# Altium footprint library CONN_HDR_2.54MM_RA_SMD.PcbLib: 56 footprints (part 1 of 4)
Each footprint in its own frame and in the unit in brackets; x right, y up, seen from the top. Pads: shape width x height; smd on the part's side, far side on the other; paste and mask are expansions set on the pad; w line width, h text height; cw(c..) or ccw(c..) is an arc to the next point about the centre after c.
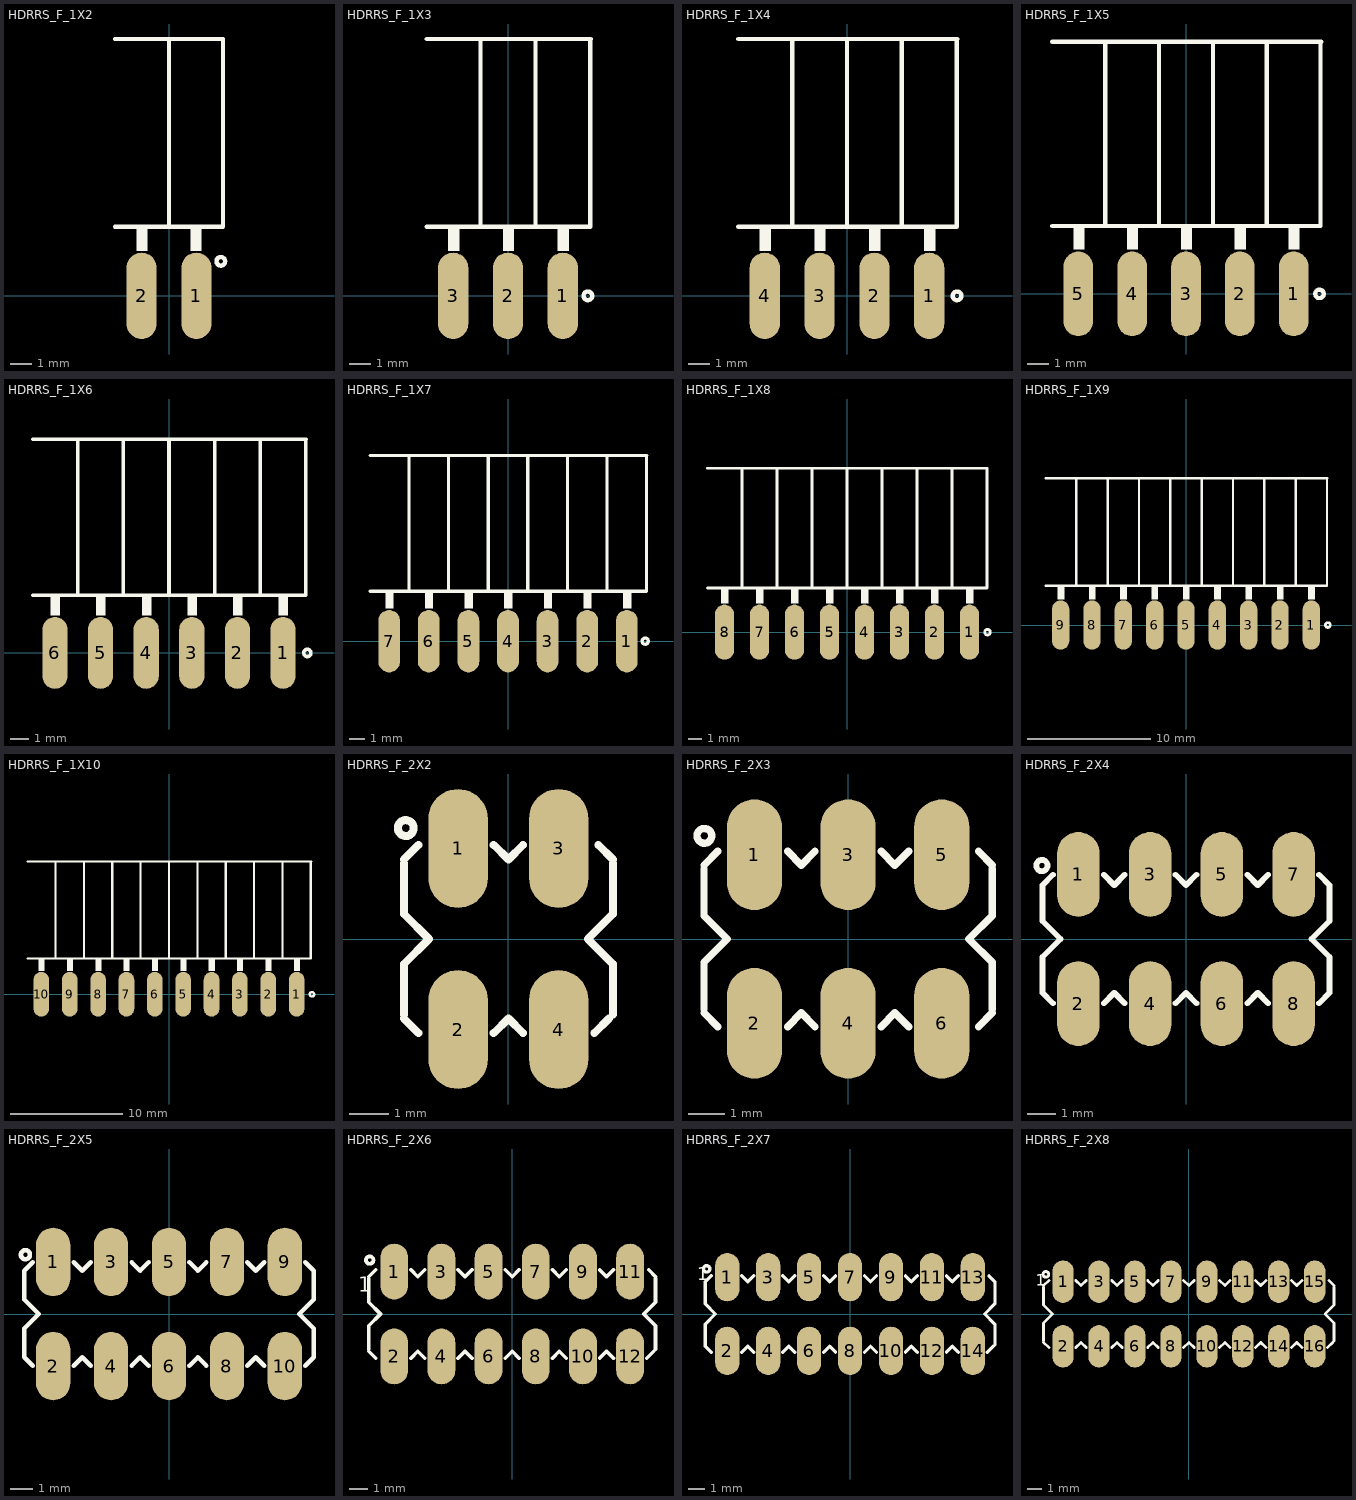
[diagram p0: the footprints below, top view; thin cyan lines are the x and y axes]

## HDRRS_F_1X2 [mm] "Connector; Header; 2 Position, SMD edge"
height 1.8
pads (2):
  oval 1.4x4 smd mask+0.1: 1(1.27,0) 2(-1.27,0)
Top Overlay:
  circle w0.2: c2.4,1.6 r0.2
  region: -1,2.1 -1.5,2.1 -1.5,3.2 -1,3.2
  region: 1.5,2.1 1,2.1 1,3.2 1.5,3.2
  lines w0.2: -2.5,3.2 0,3.2 ; -2.5,11.9 0.03,11.9 ; 0,3.2 2.5,3.2 2.5,11.9 0,11.9 0,3.2
3D body "BB02-JS022-X0X-000000_rev1.5.STEP": height 2.58, standoff 0.08, extent -2.79,-1.7 2.79,11.8

## HDRRS_F_1X3 [mm] "Connector; Header; 3 Position"
pads (3):
  oval 1.4x4 smd mask+0.1: 1(2.54,0) 2(0,0) 3(-2.54,0)
Top Overlay:
  circle w0.2: c3.7,0 r0.2
  region: -2.27,2.1 -2.77,2.1 -2.77,3.2 -2.27,3.2
  region: 0.27,2.1 -0.23,2.1 -0.23,3.2 0.27,3.2
  region: 2.81,2.1 2.31,2.1 2.31,3.2 2.81,3.2
  lines w0.2: -3.77,3.2 -1.27,3.2 -1.27,11.9 ; -3.77,11.9 -1.24,11.9 ; -1.23,3.2 1.27,3.2 1.27,11.9 ; -1.23,11.9 1.3,11.9 ; 1.31,3.2 3.81,3.2 3.81,11.9 ; 1.31,11.9 3.84,11.9
3D body "HDR_F_1X3RASMD.step": height 2.58, standoff 0.08, extent -4.08,-1.7 3.96,11.8

## HDRRS_F_1X4 [mm] "Connector; Header; 4 Position"
pads (4):
  oval 1.4x4 smd mask+0.1: 1(3.81,0) 2(1.27,0) 3(-1.27,0) 4(-3.81,0)
Top Overlay:
  circle w0.2: c5.1,0 r0.2
  region: 4.08,2.1 3.58,2.1 3.58,3.2 4.08,3.2
  region: 1.54,2.1 1.04,2.1 1.04,3.2 1.54,3.2
  region: -1,2.1 -1.5,2.1 -1.5,3.2 -1,3.2
  region: -3.54,2.1 -4.04,2.1 -4.04,3.2 -3.54,3.2
  lines w0.2: -5.04,3.2 -2.54,3.2 -2.54,11.9 ; -5.04,11.9 -2.51,11.9 ; -2.5,3.2 0,3.2 0,11.9 ; -2.5,11.9 0.03,11.9 ; 0.04,3.2 2.54,3.2 2.54,11.9 ; 0.04,11.9 2.57,11.9 ; 2.58,3.2 5.08,3.2 5.08,11.9 ; 2.58,11.9 5.11,11.9
3D body "BB02-JS022-X0X-000000_rev1.5.STEP": height 2.58, standoff 0.08, extent -0.25,-1.7 5.33,11.8
3D body "BB02-JS022-X0X-000000_rev1.5.STEP": height 2.58, standoff 0.08, extent -5.33,-1.7 0.25,11.8

## HDRRS_F_1X5 [mm] "Connector; Header; 5 Position"
pads (5):
  oval 1.4x4 smd mask+0.1: 1(5.08,0) 2(2.54,0) 3(0,0) 4(-2.54,0) 5(-5.08,0)
Top Overlay:
  circle w0.2: c6.3,0 r0.2
  region: -4.81,2.1 -5.31,2.1 -5.31,3.2 -4.81,3.2
  region: -2.27,2.1 -2.77,2.1 -2.77,3.2 -2.27,3.2
  region: 0.27,2.1 -0.23,2.1 -0.23,3.2 0.27,3.2
  region: 2.81,2.1 2.31,2.1 2.31,3.2 2.81,3.2
  region: 5.35,2.1 4.85,2.1 4.85,3.2 5.35,3.2
  lines w0.2: -6.31,3.2 -3.81,3.2 -3.81,11.9 ; -6.31,11.9 -3.78,11.9 ; -3.77,3.2 -1.27,3.2 -1.27,11.9 ; -3.77,11.9 -1.24,11.9 ; -1.23,3.2 1.27,3.2 1.27,11.9 ; -1.23,11.9 1.3,11.9 ; 1.31,3.2 3.81,3.2 3.81,11.9 ; 1.31,11.9 3.84,11.9 ; 3.85,3.2 6.35,3.2 6.35,11.9 ; 3.85,11.9 6.38,11.9
3D body "HDR_F_1X3RASMD.step": height 2.58, standoff 0.08, extent -6.62,-1.7 1.42,11.8
3D body "BB02-JS022-X0X-000000_rev1.5.STEP": height 2.58, standoff 0.08, extent 1.02,-1.7 6.6,11.8

## HDRRS_F_1X6 [mm] "Connector; Header; 6 Position"
pads (6):
  oval 1.4x4 smd mask+0.1: 1(6.35,0) 2(3.81,0) 3(1.27,0) 4(-1.27,0) 5(-3.81,0) 6(-6.35,0)
Top Overlay:
  circle w0.2: c7.7,0 r0.2
  region: 6.62,2.1 6.12,2.1 6.12,3.2 6.62,3.2
  region: 4.08,2.1 3.58,2.1 3.58,3.2 4.08,3.2
  region: 1.54,2.1 1.04,2.1 1.04,3.2 1.54,3.2
  region: -1,2.1 -1.5,2.1 -1.5,3.2 -1,3.2
  region: -3.54,2.1 -4.04,2.1 -4.04,3.2 -3.54,3.2
  region: -6.08,2.1 -6.58,2.1 -6.58,3.2 -6.08,3.2
  lines w0.2: -7.58,3.2 -5.08,3.2 -5.08,11.9 ; -7.58,11.9 -5.05,11.9 ; -5.04,3.2 -2.54,3.2 -2.54,11.9 ; -5.04,11.9 -2.51,11.9 ; -2.5,3.2 0,3.2 0,11.9 ; -2.5,11.9 0.03,11.9 ; 0.04,3.2 2.54,3.2 2.54,11.9 ; 0.04,11.9 2.57,11.9 ; 2.58,3.2 5.08,3.2 5.08,11.9 ; 2.58,11.9 5.11,11.9 ; 5.12,3.2 7.62,3.2 7.62,11.9 ; 5.12,11.9 7.65,11.9
3D body "BB02-JS062-X0X-000000_rev1.5.STEP": height 2.58, standoff 0.08, extent -7.87,-1.7 7.87,11.8

## HDRRS_F_1X7 [mm] "Connector; Header; 7 Position"
pads (7):
  oval 1.4x4 smd mask+0.1: 1(7.62,0) 2(5.08,0) 3(2.54,0) 4(0,0) 5(-2.54,0) 6(-5.08,0) 7(-7.62,0)
Top Overlay:
  circle w0.2: c8.8,0 r0.2
  region: 7.89,2.1 7.39,2.1 7.39,3.2 7.89,3.2
  region: 5.35,2.1 4.85,2.1 4.85,3.2 5.35,3.2
  region: 2.81,2.1 2.31,2.1 2.31,3.2 2.81,3.2
  region: 0.27,2.1 -0.23,2.1 -0.23,3.2 0.27,3.2
  region: -2.27,2.1 -2.77,2.1 -2.77,3.2 -2.27,3.2
  region: -4.81,2.1 -5.31,2.1 -5.31,3.2 -4.81,3.2
  region: -7.35,2.1 -7.85,2.1 -7.85,3.2 -7.35,3.2
  lines w0.2: -8.85,3.2 -6.35,3.2 -6.35,11.9 ; -8.85,11.9 -6.32,11.9 ; -6.31,3.2 -3.81,3.2 -3.81,11.9 ; -6.31,11.9 -3.78,11.9 ; -3.77,3.2 -1.27,3.2 -1.27,11.9 ; -3.77,11.9 -1.24,11.9 ; -1.23,3.2 1.27,3.2 1.27,11.9 ; -1.23,11.9 1.3,11.9 ; 1.31,3.2 3.81,3.2 3.81,11.9 ; 1.31,11.9 3.84,11.9 ; 3.85,3.2 6.35,3.2 6.35,11.9 ; 3.85,11.9 6.38,11.9 ; 6.39,3.2 8.89,3.2 8.89,11.9 ; 6.39,11.9 8.92,11.9
3D body "BB02-JS022-X0X-000000_rev1.5.STEP": height 2.58, standoff 0.08, extent -9.14,-1.7 -3.56,11.8
3D body "BB02-JS022-X0X-000000_rev1.5.STEP": height 2.58, standoff 0.08, extent -4.06,-1.7 1.52,11.8
3D body "HDR_F_1X3RASMD.step": height 2.58, standoff 0.08, extent 1,-1.7 9.04,11.8

## HDRRS_F_1X8 [mm] "Connector; Header; 8 Position"
pads (8):
  oval 1.4x4 smd mask+0.1: 1(8.89,0) 2(6.35,0) 3(3.81,0) 4(1.27,0) 5(-1.27,0) 6(-3.81,0) 7(-6.35,0) 8(-8.89,0)
Top Overlay:
  circle w0.2: c10.2,0 r0.2
  region: -8.62,2.1 -9.12,2.1 -9.12,3.2 -8.62,3.2
  region: -6.08,2.1 -6.58,2.1 -6.58,3.2 -6.08,3.2
  region: -3.54,2.1 -4.04,2.1 -4.04,3.2 -3.54,3.2
  region: -1,2.1 -1.5,2.1 -1.5,3.2 -1,3.2
  region: 1.54,2.1 1.04,2.1 1.04,3.2 1.54,3.2
  region: 4.08,2.1 3.58,2.1 3.58,3.2 4.08,3.2
  region: 6.62,2.1 6.12,2.1 6.12,3.2 6.62,3.2
  region: 9.16,2.1 8.66,2.1 8.66,3.2 9.16,3.2
  lines w0.2: -10.12,3.2 -7.62,3.2 -7.62,11.9 ; -10.12,11.9 -7.59,11.9 ; -7.58,3.2 -5.08,3.2 -5.08,11.9 ; -7.58,11.9 -5.05,11.9 ; -5.04,3.2 -2.54,3.2 -2.54,11.9 ; -5.04,11.9 -2.51,11.9 ; -2.5,3.2 0,3.2 0,11.9 ; -2.5,11.9 0.03,11.9 ; 0.04,3.2 2.54,3.2 2.54,11.9 ; 0.04,11.9 2.57,11.9 ; 2.58,3.2 5.08,3.2 5.08,11.9 ; 2.58,11.9 5.11,11.9 ; 5.12,3.2 7.62,3.2 7.62,11.9 ; 5.12,11.9 7.65,11.9 ; 7.66,3.2 10.16,3.2 10.16,11.9 ; 7.66,11.9 10.19,11.9
3D body "BB02-JS022-X0X-000000_rev1.5.STEP": height 2.58, standoff 0.08, extent -10.41,-1.7 -4.83,11.8
3D body "BB02-JS062-X0X-000000_rev1.5.STEP": height 2.58, standoff 0.08, extent -5.33,-1.7 10.41,11.8

## HDRRS_F_1X9 [mm] "Connector; Header; 9 Position"
pads (9):
  oval 1.4x4 smd mask+0.1: 1(10.16,0) 2(7.62,0) 3(5.08,0) 4(2.54,0) 5(0,0) 6(-2.54,0) 7(-5.08,0) 8(-7.62,0) 9(-10.16,0)
Top Overlay:
  circle w0.2: c11.5,0 r0.2
  region: -9.89,2.1 -10.39,2.1 -10.39,3.2 -9.89,3.2
  region: -7.35,2.1 -7.85,2.1 -7.85,3.2 -7.35,3.2
  region: -4.81,2.1 -5.31,2.1 -5.31,3.2 -4.81,3.2
  region: -2.27,2.1 -2.77,2.1 -2.77,3.2 -2.27,3.2
  region: 0.27,2.1 -0.23,2.1 -0.23,3.2 0.27,3.2
  region: 2.81,2.1 2.31,2.1 2.31,3.2 2.81,3.2
  region: 5.35,2.1 4.85,2.1 4.85,3.2 5.35,3.2
  region: 7.89,2.1 7.39,2.1 7.39,3.2 7.89,3.2
  region: 10.43,2.1 9.93,2.1 9.93,3.2 10.43,3.2
  lines w0.2: -11.39,3.2 -8.89,3.2 -8.89,11.9 ; -11.39,11.9 -8.86,11.9 ; -8.85,3.2 -6.35,3.2 -6.35,11.9 ; -8.85,11.9 -6.32,11.9 ; -6.31,3.2 -3.81,3.2 -3.81,11.9 ; -6.31,11.9 -3.78,11.9 ; -3.77,3.2 -1.27,3.2 -1.27,11.9 ; -3.77,11.9 -1.24,11.9 ; -1.23,3.2 1.27,3.2 1.27,11.9 ; -1.23,11.9 1.3,11.9 ; 1.31,3.2 3.81,3.2 3.81,11.9 ; 1.31,11.9 3.84,11.9 ; 3.85,3.2 6.35,3.2 6.35,11.9 ; 3.85,11.9 6.38,11.9 ; 6.39,3.2 8.89,3.2 8.89,11.9 ; 6.39,11.9 8.92,11.9 ; 8.93,3.2 11.43,3.2 11.43,11.9 ; 8.93,11.9 11.46,11.9
3D body "HDR_F_1X3RASMD.step": height 2.58, standoff 0.08, extent -11.7,-1.7 -3.66,11.8
3D body "HDR_F_1X3RASMD.step": height 2.58, standoff 0.08, extent -4.08,-1.7 3.96,11.8
3D body "HDR_F_1X3RASMD.step": height 2.58, standoff 0.08, extent 3.54,-1.7 11.58,11.8

## HDRRS_F_1X10 [mm] "Connector; Header; 10 Position"
pads (10):
  oval 1.4x4 smd mask+0.1: 1(11.43,0) 2(8.89,0) 3(6.35,0) 4(3.81,0) 5(1.27,0) 6(-1.27,0) 7(-3.81,0) 8(-6.35,0) 9(-8.89,0) 10(-11.43,0)
Top Overlay:
  circle w0.2: c12.8,0 r0.2
  region: 11.7,2.1 11.2,2.1 11.2,3.2 11.7,3.2
  region: 9.16,2.1 8.66,2.1 8.66,3.2 9.16,3.2
  region: 6.62,2.1 6.12,2.1 6.12,3.2 6.62,3.2
  region: 4.08,2.1 3.58,2.1 3.58,3.2 4.08,3.2
  region: 1.54,2.1 1.04,2.1 1.04,3.2 1.54,3.2
  region: -1,2.1 -1.5,2.1 -1.5,3.2 -1,3.2
  region: -3.54,2.1 -4.04,2.1 -4.04,3.2 -3.54,3.2
  region: -6.08,2.1 -6.58,2.1 -6.58,3.2 -6.08,3.2
  region: -8.62,2.1 -9.12,2.1 -9.12,3.2 -8.62,3.2
  region: -11.16,2.1 -11.66,2.1 -11.66,3.2 -11.16,3.2
  lines w0.2: -12.66,3.2 -10.16,3.2 -10.16,11.9 ; -12.66,11.9 -10.13,11.9 ; -10.12,3.2 -7.62,3.2 -7.62,11.9 ; -10.12,11.9 -7.59,11.9 ; -7.58,3.2 -5.08,3.2 -5.08,11.9 ; -7.58,11.9 -5.05,11.9 ; -5.04,3.2 -2.54,3.2 -2.54,11.9 ; -5.04,11.9 -2.51,11.9 ; -2.5,3.2 0,3.2 0,11.9 ; -2.5,11.9 0.03,11.9 ; 0.04,3.2 2.54,3.2 2.54,11.9 ; 0.04,11.9 2.57,11.9 ; 2.58,3.2 5.08,3.2 5.08,11.9 ; 2.58,11.9 5.11,11.9 ; 5.12,3.2 7.62,3.2 7.62,11.9 ; 5.12,11.9 7.65,11.9 ; 7.66,3.2 10.16,3.2 10.16,11.9 ; 7.66,11.9 10.19,11.9 ; 10.2,3.2 12.7,3.2 12.7,11.9 ; 10.2,11.9 12.73,11.9
3D body "BB02-JS022-X0X-000000_rev1.5.STEP": height 2.58, standoff 0.08, extent -12.95,-1.7 -7.37,11.8
3D body "BB02-JS022-X0X-000000_rev1.5.STEP": height 2.58, standoff 0.08, extent -7.87,-1.7 -2.29,11.8
3D body "BB02-JS062-X0X-000000_rev1.5.STEP": height 2.58, standoff 0.08, extent -2.79,-1.7 12.95,11.8

## HDRRS_F_2X2 [mm] "HEADER, 2.54mm, 2 Rows, Right Angle, Female, SMD"
pads (4):
  oval 1.5x3 smd: 1(-1.27,2.286) 2(-1.27,-2.286) 3(1.27,2.286) 4(1.27,-2.286)
Top Overlay:
  circle w0.2: c-2.59,2.8 r0.2
  lines w0.2: -2.64,-2.005 -2.267,-2.378 ; -2.64,-1.905 -2.64,-0.635 -2.005,0 -2.64,0.635 -2.64,1.905 ; -2.64,2.005 -2.267,2.378 ; -0.373,-2.378 0,-2.005 0.373,-2.378 ; -0.373,2.378 0,2.005 0.373,2.378 ; 2.167,-2.378 2.54,-2.005 ; 2.267,2.378 2.64,2.005 ; 2.64,-1.905 2.64,-0.635 2.005,0 2.64,0.635 2.64,1.905
3D body "BB02-LE202-04.step": height 4.93, standoff -0.07, extent -2.757,-3.005 2.757,12.295

## HDRRS_F_2X3 [mm] "HEADER, 2.54mm, 2 Rows, Right Angle, Female, SMD"
pads (6):
  oval 1.5x3 smd: 1(-2.54,2.286) 2(-2.54,-2.286) 3(0,2.286) 4(0,-2.286) 5(2.54,2.286) 6(2.54,-2.286)
Top Overlay:
  circle w0.2: c-3.9,2.8 r0.2
  lines w0.2: -3.91,-2.005 -3.537,-2.378 ; -3.91,-1.905 -3.91,-0.635 -3.275,0 -3.91,0.635 -3.91,1.905 ; -3.91,2.005 -3.537,2.378 ; -1.643,-2.378 -1.27,-2.005 -0.897,-2.378 ; -1.643,2.378 -1.27,2.005 -0.897,2.378 ; 0.897,-2.378 1.27,-2.005 1.643,-2.378 ; 0.897,2.378 1.27,2.005 1.643,2.378 ; 3.537,-2.378 3.91,-2.005 ; 3.537,2.378 3.91,2.005 ; 3.91,-1.905 3.91,-0.635 3.275,0 3.91,0.635 3.91,1.905
3D body "BB02-LE202-06.step": height 4.93, standoff -0.07, extent -4.027,-3.005 3.961,12.295

## HDRRS_F_2X4 [mm] "HEADER, 2.54mm, 2 Rows, Right Angle, Female, SMD"
pads (8):
  oval 1.5x3 smd: 1(-3.81,2.286) 2(-3.81,-2.286) 3(-1.27,2.286) 4(-1.27,-2.286) 5(1.27,2.286) 6(1.27,-2.286) 7(3.81,2.286) 8(3.81,-2.286)
Top Overlay:
  circle w0.2: c-5.1,2.6 r0.2
  lines w0.2: -4.707,-2.278 -5.08,-1.905 -5.08,-0.635 -4.445,0 -5.08,0.635 -5.08,1.905 -4.707,2.278 ; -2.913,-2.278 -2.54,-1.905 -2.167,-2.278 ; -2.913,2.278 -2.54,1.905 -2.167,2.278 ; -0.373,-2.278 0,-1.905 0.373,-2.278 ; -0.373,2.278 0,1.905 0.373,2.278 ; 2.167,-2.278 2.54,-1.905 2.913,-2.278 ; 2.167,2.278 2.54,1.905 2.913,2.278 ; 4.707,-2.278 5.08,-1.905 5.08,-0.635 4.445,0 5.08,0.635 5.08,1.905 4.707,2.278
3D body "BB02-LE202-04.step": height 4.93, standoff -0.07, extent -5.297,-3.005 0.217,12.295
3D body "BB02-LE202-04.step": height 4.93, standoff -0.07, extent -0.217,-3.005 5.297,12.295

## HDRRS_F_2X5 [mm] "HEADER, 2.54mm, 2 Rows, Right Angle, Female, SMD"
pads (10):
  oval 1.5x3 smd: 1(-5.08,2.286) 2(-5.08,-2.286) 3(-2.54,2.286) 4(-2.54,-2.286) 5(0,2.286) 6(0,-2.286) 7(2.54,2.286) 8(2.54,-2.286) 9(5.08,2.286) 10(5.08,-2.286)
Top Overlay:
  circle w0.2: c-6.3,2.6 r0.2
  lines w0.2: -5.977,-2.278 -6.35,-1.905 -6.35,-0.635 -5.715,0 -6.35,0.635 -6.35,1.905 -5.977,2.278 ; -4.183,-2.278 -3.81,-1.905 -3.437,-2.278 ; -4.183,2.278 -3.81,1.905 -3.437,2.278 ; -1.643,-2.278 -1.27,-1.905 -0.897,-2.278 ; -1.643,2.278 -1.27,1.905 -0.897,2.278 ; 0.897,-2.278 1.27,-1.905 1.643,-2.278 ; 0.897,2.278 1.27,1.905 1.643,2.278 ; 3.437,-2.278 3.81,-1.905 4.183,-2.278 ; 3.437,2.278 3.81,1.905 4.183,2.278 ; 5.977,-2.278 6.35,-1.905 6.35,-0.635 5.715,0 6.35,0.635 6.35,1.905 5.977,2.278
3D body "BB02-LE202-06.step": height 4.93, standoff -0.07, extent -6.567,-3.005 1.421,12.295
3D body "BB02-LE202-04.step": height 4.93, standoff -0.07, extent 1.053,-3.005 6.567,12.295

## HDRRS_F_2X6 [mm] "HEADER, 2.54mm, 2 Rows, Right Angle, Female, SMD"
pads (12):
  oval 1.5x3 smd: 1(-6.35,2.286) 2(-6.35,-2.286) 3(-3.81,2.286) 4(-3.81,-2.286) 5(-1.27,2.286) 6(-1.27,-2.286) 7(1.27,2.286) 8(1.27,-2.286) 9(3.81,2.286) 10(3.81,-2.286) 11(6.35,2.286) 12(6.35,-2.286)
Top Overlay:
  circle w0.2: c-7.67,2.9 r0.2
  lines w0.2: -7.72,-2.005 -7.347,-2.378 ; -7.72,-1.905 -7.72,-0.635 -7.085,0 -7.72,0.635 -7.72,1.905 ; -7.72,2.005 -7.347,2.378 ; -5.453,-2.378 -5.08,-2.005 -4.707,-2.378 ; -5.453,2.378 -5.08,2.005 -4.707,2.378 ; -2.913,-2.378 -2.54,-2.005 -2.167,-2.378 ; -2.913,2.378 -2.54,2.005 -2.167,2.378 ; -0.373,-2.378 0,-2.005 0.373,-2.378 ; -0.373,2.378 0,2.005 0.373,2.378 ; 2.167,-2.378 2.54,-2.005 2.913,-2.378 ; 2.167,2.378 2.54,2.005 2.913,2.378 ; 4.707,-2.378 5.08,-2.005 5.453,-2.378 ; 4.707,2.378 5.08,2.005 5.453,2.378 ; 7.247,-2.378 7.62,-2.005 ; 7.347,2.378 7.72,2.005 ; 7.72,-1.905 7.72,-0.635 7.085,0 7.72,0.635 7.72,1.905
  text "1" at -8.3,1.2 h0.8
3D body "BB02-LE202-06.step": height 4.93, standoff -0.07, extent -7.837,-3.005 0.151,12.295
3D body "BB02-LE202-06.step": height 4.93, standoff -0.07, extent -0.217,-3.005 7.771,12.295

## HDRRS_F_2X7 [mm] "HEADER, 2.54mm, 2 Rows, Right Angle, Female, SMD"
pads (14):
  oval 1.5x3 smd: 1(-7.62,2.286) 2(-7.62,-2.286) 3(-5.08,2.286) 4(-5.08,-2.286) 5(-2.54,2.286) 6(-2.54,-2.286) 7(0,2.286) 8(0,-2.286) 9(2.54,2.286) 10(2.54,-2.286) 11(5.08,2.286) 12(5.08,-2.286) 13(7.62,2.286) 14(7.62,-2.286)
Top Overlay:
  circle w0.2: c-8.9,2.8 r0.2
  lines w0.2: -8.99,-2.005 -8.617,-2.378 ; -8.99,-1.905 -8.99,-0.635 -8.355,0 -8.99,0.635 -8.99,1.905 ; -8.99,2.005 -8.617,2.378 ; -6.723,-2.378 -6.35,-2.005 -5.977,-2.378 ; -6.723,2.378 -6.35,2.005 -5.977,2.378 ; -4.183,-2.378 -3.81,-2.005 -3.437,-2.378 ; -4.183,2.378 -3.81,2.005 -3.437,2.378 ; -1.643,-2.378 -1.27,-2.005 -0.897,-2.378 ; -1.643,2.378 -1.27,2.005 -0.897,2.378 ; 0.897,-2.378 1.27,-2.005 1.643,-2.378 ; 0.897,2.378 1.27,2.005 1.643,2.378 ; 3.437,-2.378 3.81,-2.005 4.183,-2.378 ; 3.437,2.378 3.81,2.005 4.183,2.378 ; 5.977,-2.378 6.35,-2.005 6.723,-2.378 ; 5.977,2.378 6.35,2.005 6.723,2.378 ; 8.517,-2.378 8.89,-2.005 ; 8.617,2.378 8.99,2.005 ; 8.99,-1.905 8.99,-0.635 8.355,0 8.99,0.635 8.99,1.905
  text "1" at -9.5,2.1 h0.8
3D body "BB02-LE202-04.step": height 4.93, standoff -0.07, extent 3.593,-3.005 9.107,12.295
3D body "BB02-LE202-04.step": height 4.93, standoff -0.07, extent -1.487,-3.005 4.027,12.295
3D body "BB02-LE202-06.step": height 4.93, standoff -0.07, extent -9.107,-3.005 -1.119,12.295

## HDRRS_F_2X8 [mm] "HEADER, 2.54mm, 2 Rows, Right Angle, Female, SMD"
pads (16):
  oval 1.5x3 smd: 1(-8.89,2.286) 2(-8.89,-2.286) 3(-6.35,2.286) 4(-6.35,-2.286) 5(-3.81,2.286) 6(-3.81,-2.286) 7(-1.27,2.286) 8(-1.27,-2.286) 9(1.27,2.286) 10(1.27,-2.286) 11(3.81,2.286) 12(3.81,-2.286) 13(6.35,2.286) 14(6.35,-2.286) 15(8.89,2.286) 16(8.89,-2.286)
Top Overlay:
  circle w0.2: c-10.1,2.8 r0.2
  lines w0.2: -10.26,-2.005 -9.887,-2.378 ; -10.26,-1.905 -10.26,-0.635 -9.625,0 -10.26,0.635 -10.26,1.905 ; -10.26,2.005 -9.887,2.378 ; -7.993,-2.378 -7.62,-2.005 -7.247,-2.378 ; -7.993,2.378 -7.62,2.005 -7.247,2.378 ; -5.453,-2.378 -5.08,-2.005 -4.707,-2.378 ; -5.453,2.378 -5.08,2.005 -4.707,2.378 ; -2.913,-2.378 -2.54,-2.005 -2.167,-2.378 ; -2.913,2.378 -2.54,2.005 -2.167,2.378 ; -0.373,-2.378 0,-2.005 0.373,-2.378 ; -0.373,2.378 0,2.005 0.373,2.378 ; 2.167,-2.378 2.54,-2.005 2.913,-2.378 ; 2.167,2.378 2.54,2.005 2.913,2.378 ; 4.707,-2.378 5.08,-2.005 5.453,-2.378 ; 4.707,2.378 5.08,2.005 5.453,2.378 ; 7.247,-2.378 7.62,-2.005 7.993,-2.378 ; 7.247,2.378 7.62,2.005 7.993,2.378 ; 9.787,-2.378 10.16,-2.005 ; 9.887,2.378 10.26,2.005 ; 10.26,-1.905 10.26,-0.635 9.625,0 10.26,0.635 10.26,1.905
  text "1" at -10.8,2 h0.8
3D body "BB02-LE202-04.step": height 4.93, standoff -0.07, extent -10.377,-3.005 -4.863,12.295
3D body "BB02-LE202-04.step": height 4.93, standoff -0.07, extent -5.297,-3.005 0.217,12.295
3D body "BB02-LE202-04.step": height 4.93, standoff -0.07, extent -0.217,-3.005 5.297,12.295
3D body "BB02-LE202-04.step": height 4.93, standoff -0.07, extent 4.863,-3.005 10.377,12.295